# Altium footprint library Wuerth_Elektronik_750311457_0.PcbLib: 1 footprints
Each footprint in its own frame and in the unit in brackets; x right, y up, seen from the top. Pads: shape width x height; smd on the part's side, far side on the other; paste and mask are expansions set on the pad; w line width, h text height; cw(c..) or ccw(c..) is an arc to the next point about the centre after c.
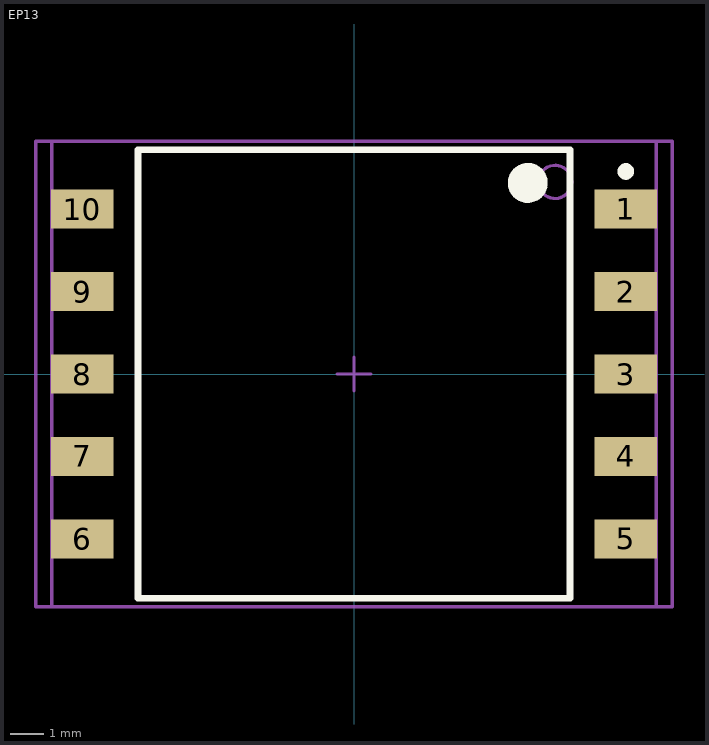
[diagram p0: the footprint, top view; thin cyan lines are the x and y axes]

## EP13 [mm] "SMD, 10-Leads, Body 13.5x14.0mm (max), Pitch 2.48mm, IPC Medium Density"
height 12.7
pads (10):
  rect 1.88x1.17 smd: 1(8.18,4.96) 2(8.18,2.48) 3(8.18,0) 4(8.18,-2.48) 5(8.18,-4.96) 6(-8.18,-4.96) 7(-8.18,-2.48) 8(-8.18,0) 9(-8.18,2.48) 10(-8.18,4.96)
Top Overlay:
  circle w0.6: c5.23,5.75 r0.3
  circle w0.25: c8.18,6.095 r0.125
  lines w0.2: -6.5,-6.75 6.5,-6.75 6.5,6.75 -6.5,6.75 -6.5,-6.75
Mechanical 13:
  circle w0.1: c6.05,5.78 r0.5
  lines w0.1: -9.1,-7 9.1,-7 9.1,7 -9.1,7 -9.1,-7
Mechanical 15:
  lines w0.1: -0.5,0 0.5,0 ; 0,-0.5 0,0.5 ; -9.575,-7 9.575,-7 9.575,7 -9.575,7 -9.575,-7
3D body: height 12.5, standoff 0, extent -8.875,-6.75 8.875,6.75